# Altium schematic symbol library PMIC-OR Controllers, Ideal Diodes.SchLib: 6 symbols
Pins are listed as number, name and electrical type; pins without a type are passive.

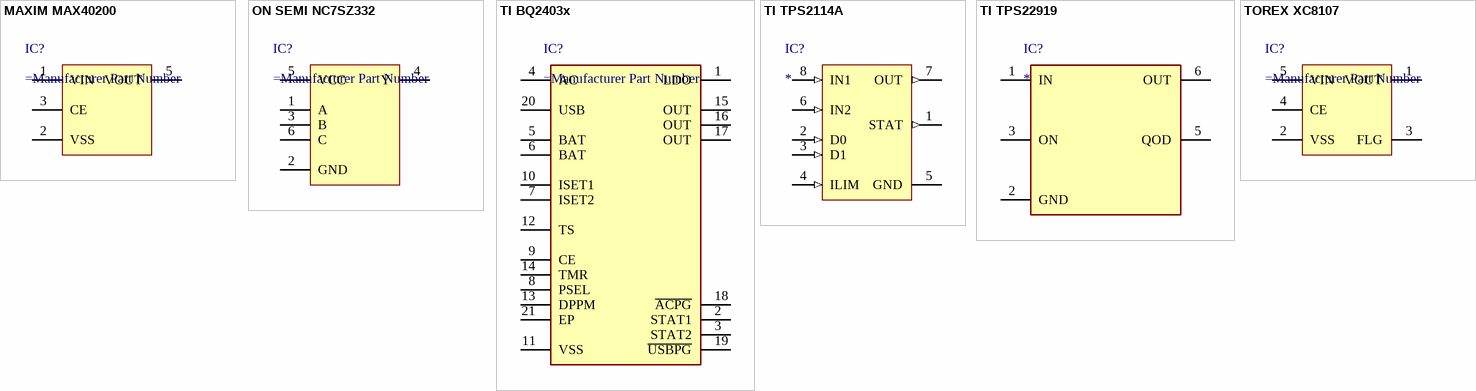
[diagram p0: symbols MAXIM MAX40200 to TOREX XC8107]

## MAXIM MAX40200
designator IC?
The MAX40200 is an ideal diode current-switch that drops so little voltage that it approaches an order of magnitude better than Schottky diodes.
footprint ANALOG SOT-23-5 RJ-5 (SOT23, 5-Leads, Body 2.90x2.80mm, Pitch 0.95mm, IPC Medium Density)
pins: 1 VIN, 2 VSS, 3 CE, 5 VOUT

## ON SEMI NC7SZ332
designator IC?
TinyLogic UHS 3-Input OR Gate; Manufacturer_Name: onsemi; Manufacturer_Part_Number: NC7SZ332P6X; Description: Broad VCC operating range 1.65V to 5.5V; Ultra high speed tPD 2.4 ns Typ into 50 pF at 5V VCC; Overvoltage tolerant inputs facilitate 5V to 3V translation ; Ultra small MicroPak leadless package; Space saving SC70 6-lead package; Power down high impedance inputs/output; High output drive +/-24 mA at 3V VCC; Patented noise/EMI reduction circuitry implemented; Datasheet Link: https://www.onsemi.com/pub/Collateral/NC7SZ332-D.PDF; Height: 1.1mm; Mouser Part Number: 512-NC7SZ332P6X; Mouser Price/Stock: https://www.mouser.co.uk/ProductDetail/ON-Semiconductor-Fairchild/NC7SZ332P6X?qs=4YdYnegEbZWrm%252Bn7aExXJw%3D%3D; Arrow Part Number: NC7SZ332P6X; Arrow Price/Stock: https://www.arrow.com/en/products/nc7sz332p6x/on-semiconductor
footprint ON SEMI SC-88 6
pins: 1 A, 2 GND, 3 B, 4 Y, 5 VCC, 6 C

## TI BQ2403x
designator IC?
bq2403x Single-Chip Charge and System Power-path Management IC (bqTINY™)
footprint TI VQFN-20 RHL
pins: 1 LDO, 2 STAT1, 3 STAT2, 4 AC, 5 BAT, 6 BAT, 7 ISET2, 8 PSEL, 9 CE, 10 ISET1, 11 VSS, 12 TS, 13 DPPM, 14 TMR, 15 OUT, 16 OUT, 17 OUT, 18 ~{ACPG}, 19 ~{USBPG}, 20 USB, 21 EP

## TI TPS2114A
designator IC?
AUTOSWITCHING POWER MUX; ComponentLink1Description: Datasheet; ComponentLink1URL: http://www.ti.com/lit/ds/symlink/tps2115a.pdf
footprint TI SON-8 3x3
pins: 1 STAT (out), 2 D0 (in), 3 D1 (in), 4 ILIM (in), 5 GND (power), 6 IN2 (in), 7 OUT (out), 8 IN1 (in), 9 EPAD hidden

## TI TPS22919
designator IC?
Integrated Circuit; Manufacturer_Name: Texas Instruments; Manufacturer_Part_Number: TPS22919DCKR; Datasheet Link: http://www.ti.com/lit/ds/symlink/tps22919.pdf; Height: 1.1mm; Mouser Part Number: 595-TPS22919DCKR; Mouser Price/Stock: https://www.mouser.co.uk/ProductDetail/Texas-Instruments/TPS22919DCKR?qs=byeeYqUIh0P8WJZpeizUqw%3D%3D; Arrow Part Number: TPS22919DCKR; Arrow Price/Stock: https://www.arrow.com/en/products/tps22919dckr/texas-instruments?utm_currency=USD&region=nac
footprint TI SC-70 8 2.4x2.15mm
pins: 1 IN, 2 GND, 3 ON, 5 QOD, 6 OUT

## TOREX XC8107
designator IC?
The XC8107 series is a P-channel MOSFET power switch IC with a low ON resistance. A current limit, reverse current / prevention (prevents reverse current from VOUT to VIN), soft start, thermal shutdown, and an under voltage lockout (UVLO) are / incorporated as protective functions. A flag function monitors the power switch status.
footprint TOREX SOT-25
pins: 1 VOUT, 2 VSS, 3 FLG, 4 CE, 5 VIN